# Altium footprint library Nevron_v4.PcbLib: 26 footprints (part 2 of 2)
Each footprint in its own frame and in the unit in brackets; x right, y up, seen from the top. Pads: shape width x height; smd on the part's side, far side on the other; paste and mask are expansions set on the pad; w line width, h text height; cw(c..) or ccw(c..) is an arc to the next point about the centre after c.
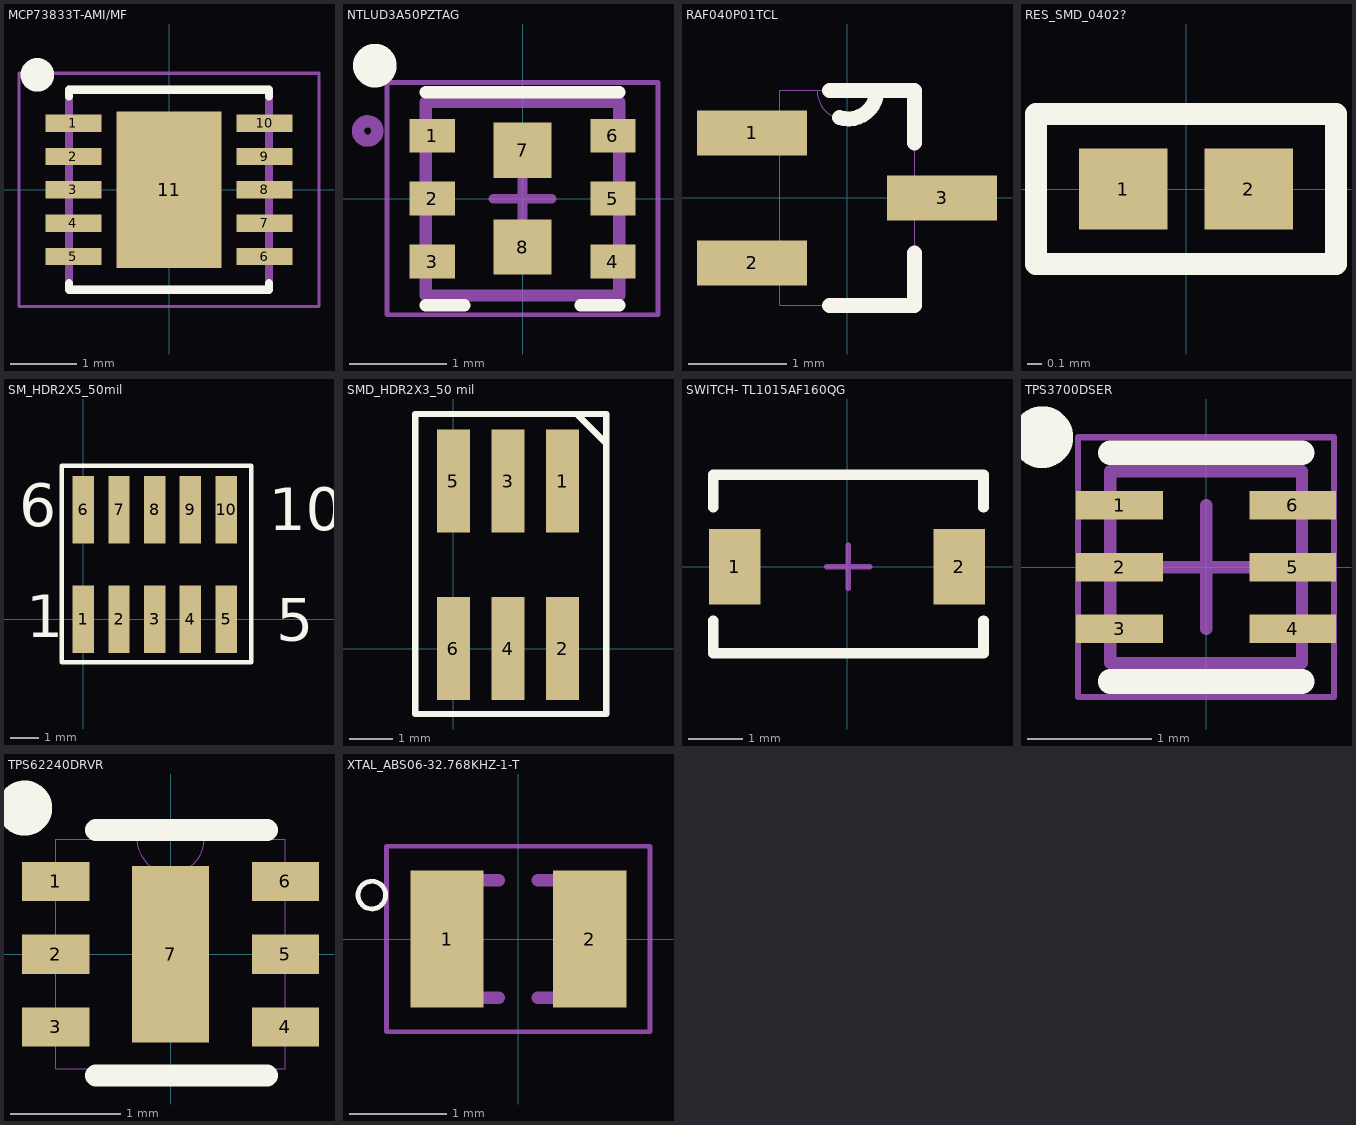
[diagram p1: the footprints below, top view; thin cyan lines are the x and y axes]

## MCP73833T-AMI/MF [mm]
pads (11):
  rect 0.84x0.26 smd: 1(-1.435,1) 2(-1.435,0.5) 3(-1.435,0) 4(-1.435,-0.5) 5(-1.435,-1) 6(1.435,-1) 7(1.435,-0.5) 8(1.435,0) 9(1.435,0.5) 10(1.435,1)
  rect 1.58x2.35 smd: 11(0,0)
Top Overlay:
  circle w0.4: c-1.975,1.725 r0.05
  lines w0.127: -1.5,-1.4 -1.5,-1.5 1.5,-1.5 1.5,-1.4 ; -1.5,1.4 -1.5,1.5 1.5,1.5 1.5,1.4
Top Paste:
  region: -0.501,0.75 0.5,0.75 0.5,-0.751 -0.501,-0.751
Mechanical 4:
  lines w0.127: -1.5,-1.5 -1.5,1.5 ; -1.5,-1.5 1.5,-1.5 ; -1.5,-1.5 -1.5,1.5 ; -1.5,-1.5 1.5,-1.5 ; -1.5,1.5 1.5,1.5 ; -1.5,1.5 1.5,1.5 ; 1.5,-1.5 1.5,1.5 ; 1.5,-1.5 1.5,1.5
Mechanical 15:
  lines w0.1: -0.3,0 0.3,0 ; 0,-0.3 0,0.3
Mechanical 16:
  lines w0.05: -2.25,-1.75 -2.25,1.75 2.25,1.75 2.25,-1.75 -2.25,-1.75
3D body "User Library-DFN-10.STEP": height 0.8, standoff 0, extent -1.5,-1.5 1.5,1.5

## NTLUD3A50PZTAG [mm]
pads (8):
  rect 0.47x0.35 smd: 1(-0.935,0.65) 2(-0.935,0) 3(-0.935,-0.65) 4(0.935,-0.65) 5(0.935,0) 6(0.935,0.65)
  rect 0.6x0.57 smd: 7(0,0.5) 8(0,-0.5)
Top Overlay:
  circle w0.4: c-1.525,1.375 r0.025
  lines w0.127: -1,-1.1 -0.6,-1.1 ; -1,1.1 1,1.1 ; 0.6,-1.1 1,-1.1
Mechanical 4:
  circle w0.127: c-1.6,0.7 r0.1
  circle w0.127: c-1.6,0.7 r0.1
  lines w0.127: -1,-1 -1,1 ; -1,-1 1,-1 ; -1,-1 -1,1 ; -1,-1 1,-1 ; -1,1 1,1 ; -1,1 1,1 ; 1,-1 1,1 ; 1,-1 1,1
Mechanical 15:
  lines w0.1: -0.3,0 0.3,0 ; 0,-0.3 0,0.3
Mechanical 16:
  lines w0.05: -1.4,-1.2 -1.4,1.2 1.4,1.2 1.4,-1.2 -1.4,-1.2
3D body "User Library-UDFN6.step": height 0.6, standoff -0.05, extent -1,-1 1,1

## RAF040P01TCL [mil] "P_channel MOSFET for power switch"
height 33.46
pads (3):
  rect 44x18 smd: 1(-38,26) 2(-38,-26) 3(38,0)
Top Overlay:
  lines w6: -7,-43 27,-43 27,-22 ; -7,43 12,43 27,43 27,22 ; -3.05,32.01 ccw(c0.36,43.15) 12,42.95
Mechanical 4:
  lines w0: -43,-33 -43,-18 ; -43,-33 -27,-33 ; -43,-33 -43,-18 ; -43,-33 -27,-33 ; -43,-18 -27,-18 ; -43,-18 -27,-18 ; -43,18 -43,33 ; -43,18 -27,18 ; -43,18 -43,33 ; -43,18 -27,18 ; -43,33 -27,33 ; -43,33 -27,33 ; -27,-43 27,-43 ; -27,-43 -27,-33 ; -27,-43 27,-43 ; -27,-43 -27,-33 ; -27,-33 -27,-18 ; -27,-33 -27,-18 ; -27,-18 -27,18 ; -27,-18 -27,18 ; -27,18 -27,33 ; -27,18 -27,33 ; -27,33 -27,43 ; -27,33 -27,43 ; -27,43 -12,43 ; -27,43 -12,43 ; -12,43 ccw(c0,43) 12,43 ; -12,43 ccw(c0,43) 12,43 ; -12,43 12,43 ; -12,43 12,43 ; 12,43 27,43 ; 12,43 27,43 ; 27,-43 27,-8 ; 27,-43 27,-8 ; 27,-8 27,8 ; 27,-8 43,-8 ; 27,-8 27,8 ; 27,-8 43,-8 ; 27,8 27,43 ; 27,8 43,8 ; 27,8 27,43 ; 27,8 43,8 ; 43,-8 43,8 ; 43,-8 43,8
3D body "sot-323.STEP": height 39.37, standoff 0, extent -39.66,-39.37 43.67,39.37

## RES_SMD_0402? [mm]
pads (2):
  rect 0.6x0.55 smd: 1(-0.425,0) 2(0.425,0)
Top Overlay:
  lines w0.15: -1.016,-0.508 1.016,-0.508 1.016,0.508 -1.016,0.508 -1.016,-0.508

## SM_HDR2X5_50mil [mm]
pads (10):
  rect 0.76x2.4 smd: 1(0,0) 2(1.27,0) 3(2.54,0) 4(3.81,0) 5(5.08,0) 6(0,3.9) 7(1.27,3.9) 8(2.54,3.9) 9(3.81,3.9) 10(5.08,3.9)
Top Overlay:
  lines w0.15: -0.762,-1.524 -0.762,5.461 5.969,5.461 5.969,-1.524 -0.762,-1.524
  text "6" at -2.286,3.302 h1.52
  text "10" at 6.604,3.175 h1.52
  text "1" at -2.032,-0.635 h1.52
  text "5" at 6.858,-0.762 h1.52

## SMD_HDR2X3_50 mil [mm]
pads (6):
  rect 0.76x2.4 smd: 1(2.54,3.9) 2(2.54,0) 3(1.27,3.9) 4(1.27,0) 5(0,3.9) 6(0,0)
Top Overlay:
  lines w0.15: 2.87,5.461 3.531,4.801 ; -0.889,-1.524 -0.889,5.461 3.556,5.461 3.556,-1.524 -0.889,-1.524
3D body "20021121-00006XXLFc.stp": height 4.51, standoff 0.01, extent -0.616,-0.635 3.194,4.865

## SWITCH- TL1015AF160QG [mm]
pads (2):
  rect 0.95x1.4 smd: 1(-2.075,0) 2(2.075,0)
Top Overlay:
  lines w0.2: -2.475,-1 -2.475,-1.6 2.525,-1.6 2.525,-1 ; -2.475,1.1 -2.475,1.7 2.525,1.7 2.525,1.1
Mechanical 15:
  lines w0.1: -0.375,0 0.425,0 ; 0.025,-0.4 0.025,0.4
3D body "TL1015AFxxxQG.stp": height 2.05, standoff 0.05, extent -2.257,-1.397 2.243,1.503

## TPS3700DSER [mm] "PSON, 6-Leads, Body 1.50x1.50mm, Pitch 0.50mm, IPC Medium Density"
height 0.8
pads (6):
  rect 0.7x0.23 smd: 1(-0.7,0.5) 2(-0.7,0) 3(-0.7,-0.5) 4(0.7,-0.5) 5(0.7,0) 6(0.7,0.5)
Top Overlay:
  circle w0.4: c-1.325,1.05 r0.05
  lines w0.2: -0.775,-0.925 0.775,-0.925 ; -0.775,0.925 0.775,0.925
Mechanical 13:
  lines w0.1: -0.775,-0.775 0.775,-0.775 0.775,0.775 -0.775,0.775 -0.775,-0.775
Mechanical 15:
  lines w0.05: -1.035,-1.05 1.035,-1.05 1.035,1.05 -1.035,1.05 -1.035,-1.05
  lines w0.1: -0.5,0 0.5,0 ; 0,-0.5 0,0.5
3D body "PSON50P150X80-6N.step": height 0.8, standoff 0, extent -0.776,-0.775 0.776,0.775

## TPS62240DRVR [mil]
pads (7):
  rect 24x14 smd: 1(-41,26) 2(-41,0) 3(-41,-26) 4(41,-26) 5(41,0) 6(41,26)
  rect 27.56x63 smd: 7(0,0)
Top Overlay:
  circle w15.75: c-52.17,52.17 r1.97
  lines w7.87: -26.57,-43.31 34.45,-43.31 ; -26.57,44.29 34.45,44.29
Mechanical 4:
  lines w0: -41,-41 41,-41 ; -41,-41 -41,41 ; -41,-41 41,-41 ; -41,-41 -41,41 ; -41,41 -12,41 ; -41,41 -12,41 ; -12,41 ccw(c0,41) 12,41 ; -12,41 ccw(c0,41) 12,41 ; -12,41 12,41 ; -12,41 12,41 ; 12,41 41,41 ; 12,41 41,41 ; 41,-41 41,41 ; 41,-41 41,41
Mechanical 15:
  lines w3.94: -11.81,0 11.81,0 ; 0,-11.81 0,11.81
3D body "User Library-QFN6.step": height 29.53, standoff 0, extent -39.36,-39.4 39.45,39.34

## XTAL_ABS06-32.768KHZ-1-T [mm]
pads (2):
  rect 0.75x1.4 smd: 1(-0.73,0) 2(0.73,0)
Top Overlay:
  circle w0.05: c-1.5,0.45 r0.141
Mechanical 1:
  lines w0.05: -1.35,-0.95 1.35,-0.95 1.35,0.95 -1.35,0.95 -1.35,-0.95
  lines w0.127: -0.2,-0.6 -1,-0.6 -1,0.6 -0.2,0.6 ; 0.2,-0.6 1,-0.6 1,0.6 0.2,0.6
3D body: height 0.6, standoff 0, extent -1.207,-0.802 1.207,0.802